# Altium schematic symbol library SCH - LOAD SWITCH - TI TPS2116DRL.SchLib: 1 symbol
Pins are listed as number, name and electrical type; pins without a type are passive.

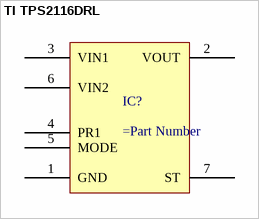
[diagram p0: symbol TI TPS2116DRL]

## TI TPS2116DRL
designator IC?
pins: 1 GND, 2 VOUT, 3 VIN1, 4 PR1, 5 MODE, 6 VIN2, 7 ST